# Altium footprint library PcbLib1.PcbLib: 22 footprints (part 1 of 2)
Each footprint in its own frame and in the unit in brackets; x right, y up, seen from the top. Pads: shape width x height; smd on the part's side, far side on the other; paste and mask are expansions set on the pad; w line width, h text height; cw(c..) or ccw(c..) is an arc to the next point about the centre after c.
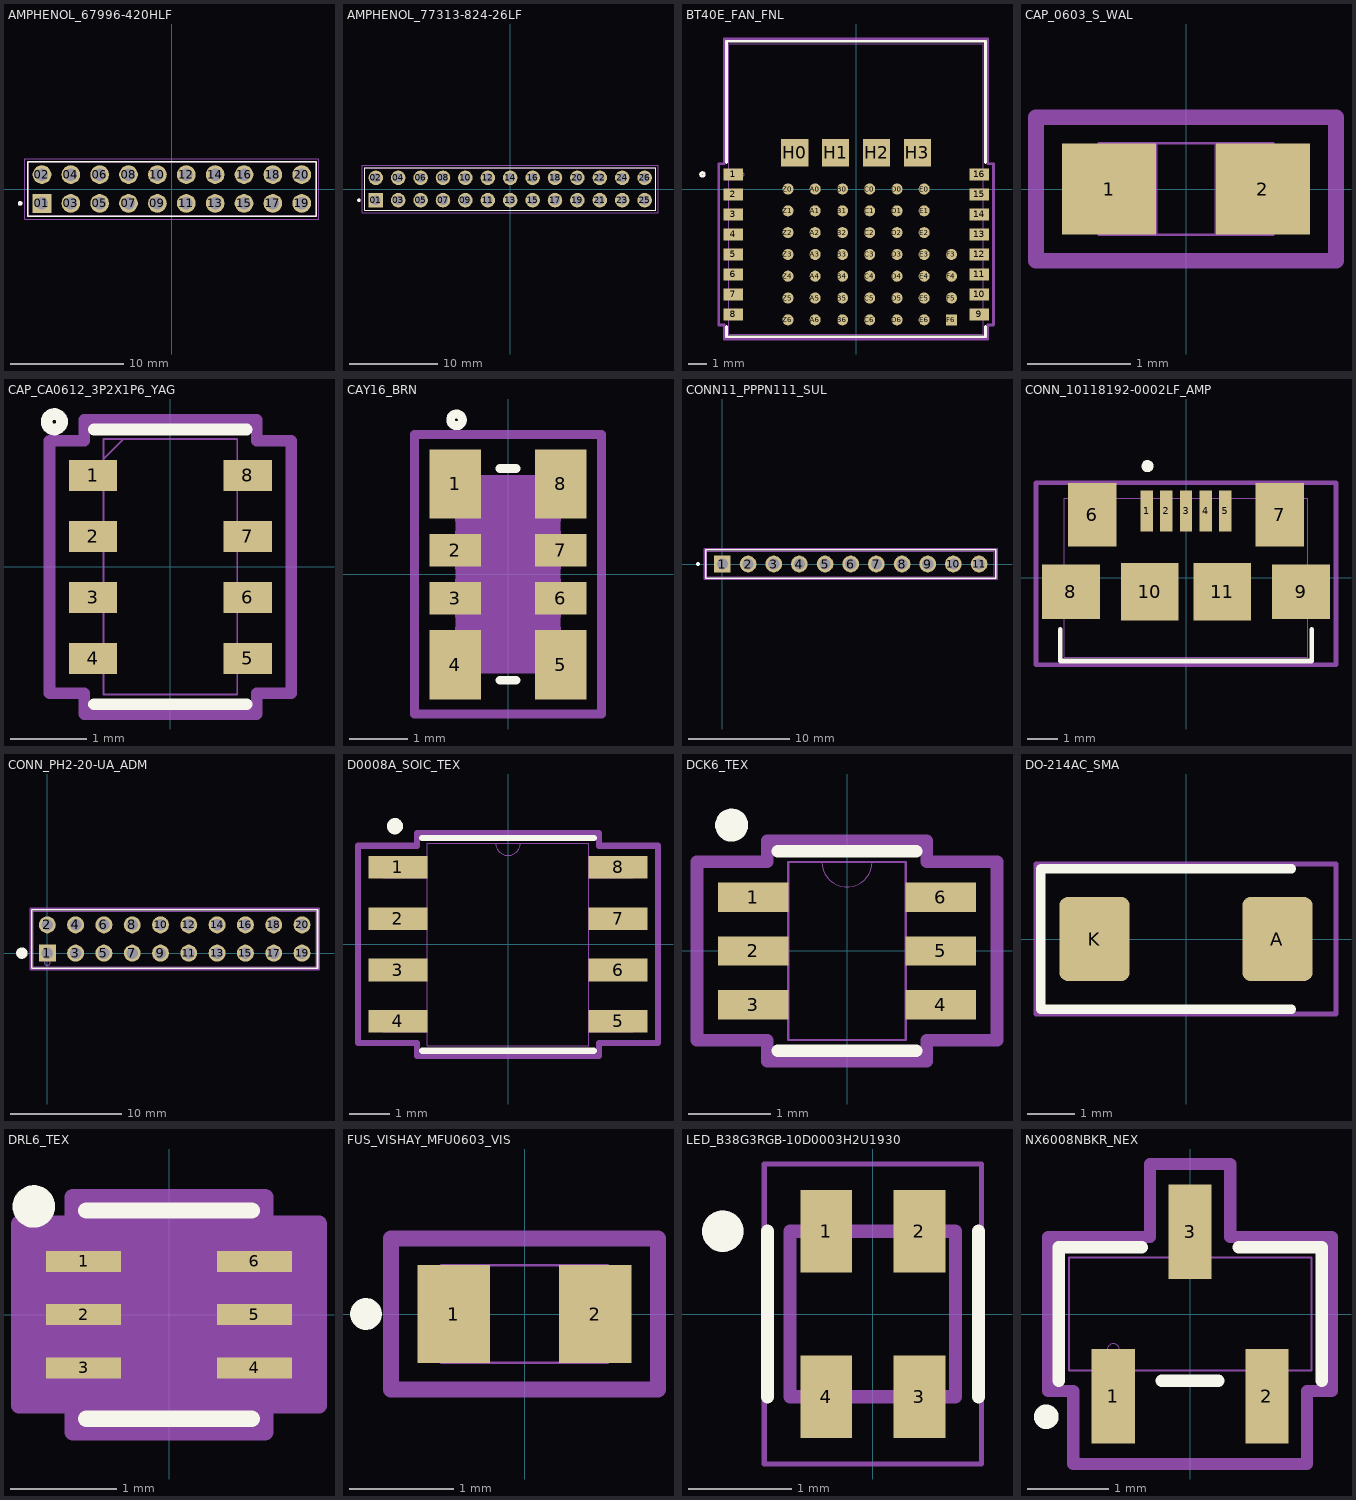
[diagram p0: the footprints below, top view; thin cyan lines are the x and y axes]

## AMPHENOL_67996-420HLF [mm]
pads (20):
  rect 1.65x1.65 hole 1.1: 01(-11.43,-1.27)
  round 1.65 hole 1.1: 02(-11.43,1.27) 03(-8.89,-1.27) 04(-8.89,1.27) 05(-6.35,-1.27) 06(-6.35,1.27) 07(-3.81,-1.27) 08(-3.81,1.27) 09(-1.27,-1.27) 10(-1.27,1.27) 11(1.27,-1.27) 12(1.27,1.27) 13(3.81,-1.27) 14(3.81,1.27) 15(6.35,-1.27) 16(6.35,1.27) 17(8.89,-1.27) 18(8.89,1.27) 19(11.43,-1.27) 20(11.43,1.27)
Top Overlay:
  circle w0.2: c-13.35,-1.27 r0.1
  lines w0.127: -12.7,-2.415 -12.7,2.415 12.7,2.415 12.7,-2.415 -12.7,-2.415
Mechanical 13:
  circle w0.2: c-13.35,-1.27 r0.1
  lines w0.127: -12.7,-2.415 -12.7,2.415 ; -12.7,-2.415 12.7,-2.415 ; -12.7,-2.415 -12.7,2.415 ; -12.7,2.415 12.7,2.415 ; -12.7,2.415 12.7,2.415 ; 12.7,-2.415 12.7,2.415 ; 12.7,-2.415 12.7,2.415
Mechanical 15:
  lines w0.05: -12.95,-2.665 -12.95,2.665 12.95,2.665 12.95,-2.665 -12.95,-2.665
3D body "step_temp.STEP": height 8.39, standoff -2.41, extent -12.7,-2.415 12.7,2.415

## AMPHENOL_77313-824-26LF [mm]
pads (26):
  rect 1.65x1.65 hole 1.1: 01(-15.24,-1.27)
  round 1.65 hole 1.1: 02(-15.24,1.27) 03(-12.7,-1.27) 04(-12.7,1.27) 05(-10.16,-1.27) 06(-10.16,1.27) 07(-7.62,-1.27) 08(-7.62,1.27) 09(-5.08,-1.27) 10(-5.08,1.27) 11(-2.54,-1.27) 12(-2.54,1.27) 13(0,-1.27) 14(0,1.27) 15(2.54,-1.27) 16(2.54,1.27) 17(5.08,-1.27) 18(5.08,1.27) 19(7.62,-1.27) 20(7.62,1.27) 21(10.16,-1.27) 22(10.16,1.27) 23(12.7,-1.27) 24(12.7,1.27) 25(15.24,-1.27) 26(15.24,1.27)
Top Overlay:
  circle w0.2: c-17.16,-1.27 r0.1
  lines w0.127: -16.51,-2.415 -16.51,2.415 16.51,2.415 16.51,-2.415 -16.51,-2.415
Mechanical 13:
  circle w0.2: c-17.16,-1.27 r0.1
  lines w0.127: -16.51,-2.415 -16.51,2.415 ; -16.51,-2.415 16.51,-2.415 ; -16.51,-2.415 -16.51,2.415 ; -16.51,2.415 16.51,2.415 ; -16.51,2.415 16.51,2.415 ; 16.51,-2.415 16.51,2.415 ; 16.51,-2.415 16.51,2.415
Mechanical 15:
  lines w0.05: -16.76,-2.665 -16.76,2.665 16.76,2.665 16.76,-2.665 -16.76,-2.665
3D body "77313-824-26LF--3DModel-STEP-554624.STEP": height 9.3, standoff -2.9, extent -16.51,-2.415 16.51,2.415

## BT40E_FAN_FNL [mil]
pads (66):
  rect 42x26 smd paste+0 mask+0: 1(-266.5,31.5) 2(-266.5,-11.81) 3(-266.5,-55.12) 4(-266.5,-98.43) 5(-266.5,-141.73) 6(-266.5,-185.04) 7(-266.5,-228.35) 8(-266.5,-271.65) 9(266.5,-271.65) 10(266.5,-228.35) 11(266.5,-185.04) 12(266.5,-141.73) 13(266.5,-98.43) 14(266.5,-55.12) 15(266.5,-11.81) 16(266.5,31.5)
  round 24 smd paste-99999 mask+0: A0(-88.58,0) A1(-88.58,-47.24) A2(-88.58,-94.49) A3(-88.58,-141.73) A4(-88.58,-188.98) A5(-88.58,-236.22) A6(-88.58,-283.46) B0(-29.53,0) B1(-29.53,-47.24) B2(-29.53,-94.49) B3(-29.53,-141.73) B4(-29.53,-188.98) B5(-29.53,-236.22) B6(-29.53,-283.46) C0(29.53,0) C1(29.53,-47.24) C2(29.53,-94.49) C3(29.53,-141.73) C4(29.53,-188.98) C5(29.53,-236.22) C6(29.53,-283.46) D0(88.58,0) D1(88.58,-47.24) D2(88.58,-94.49) D3(88.58,-141.73) D4(88.58,-188.98) D5(88.58,-236.22) D6(88.58,-283.46) E0(147.64,0) E1(147.64,-47.24) E2(147.64,-94.49) E3(147.64,-141.73) E4(147.64,-188.98) E5(147.64,-236.22) E6(147.64,-283.46) F3(206.69,-141.73) F4(206.69,-188.98) F5(206.69,-236.22) Z0(-147.64,0) Z1(-147.64,-47.24) Z2(-147.64,-94.49) Z3(-147.64,-141.73) Z4(-147.64,-188.98) Z5(-147.64,-236.22) Z6(-147.64,-283.46)
  rect 24x24 smd paste-99999 mask+0: F6(206.69,-283.46)
  rect 59x59 smd paste+0 mask+0: H0(-132.87,78.74) H1(-44.29,78.74) H2(44.29,78.74) H3(132.87,78.74)
Top Overlay:
  circle w6: c-332.81,31.5 r4
  lines w6: -280.5,-297.75 -280.5,-320 280.5,-320 280.5,-297.75 ; -280.5,57.6 -280.5,320 280.5,320 280.5,57.6
Mechanical 13:
  circle w0: c-245.5,31.5 r3
  lines w1: -275.5,-315 275.5,-315 275.5,315 -275.5,315 -275.5,-315
Mechanical 15:
  lines w6: -297.5,-294.65 -285.5,-294.65 -285.5,-325 285.5,-325 285.5,-294.65 297.5,-294.65 297.5,54.5 285.5,54.5 285.5,325 -285.5,325 -285.5,54.5 -297.5,54.5 -297.5,-294.65
3D body: height 78.74, standoff 0, extent -280.5,-320 280.5,320

## CAP_0603_S_WAL [mil]
pads (2):
  rect 36x35 smd paste+0 mask+0: 1(-29.5,0) 2(29.5,0)
Mechanical 13:
  circle w0: c-23.5,0 r3
  lines w1: -33.5,-17.5 -33.5,17.5 ; -33.5,-17.5 -11.5,-17.5 -11.5,17.5 -33.5,17.5 ; -33.5,-17.5 33.5,-17.5 ; -33.5,-17.5 -33.5,17.5 ; -33.5,17.5 33.5,17.5 ; 33.5,-17.5 11.5,-17.5 11.5,17.5 33.5,17.5 ; 33.5,-17.5 33.5,17.5 ; 33.5,-17.5 33.5,17.5
Mechanical 15:
  lines w6: -57.5,-27.5 -57.5,27.5 57.5,27.5 57.5,-27.5 -57.5,-27.5
3D body "CAP_0603_S_WAL.step": height 34.02, standoff 0, extent -33.5,-17.48 33.5,17.48

## CAP_CA0612_3P2X1P6_YAG [mil]
pads (8):
  rect 25x16 smd paste+0 mask+0: 1(-40,47.24) 2(-40,15.75) 3(-40,-15.75) 4(-40,-47.24) 5(40,-47.24) 6(40,-15.75) 7(40,15.75) 8(40,47.24)
Top Overlay:
  circle w6: c-60,75 r4
  lines w6: -39.5,-71 39.5,-71 ; -39.5,71 39.5,71
Mechanical 13:
  lines w0: -34.5,-52.24 ccw(c-34.5,-47.24) -34.5,-42.24 ; -34.5,-20.75 ccw(c-34.5,-15.75) -34.5,-10.75 ; -34.5,10.75 ccw(c-34.5,15.75) -34.5,20.75 ; -34.5,42.24 ccw(c-34.5,47.24) -34.5,52.24 ; 34.5,-52.24 cw(c34.5,-47.24) 34.5,-42.24 ; 34.5,-20.75 cw(c34.5,-15.75) 34.5,-10.75 ; 34.5,10.75 cw(c34.5,15.75) 34.5,20.75 ; 34.5,42.24 cw(c34.5,47.24) 34.5,52.24
  lines w1: -34.5,-52.24 -34.5,-66 34.5,-66 34.5,-52.24 ; -34.5,-42.24 -34.5,-20.75 ; -34.5,-10.75 -34.5,10.75 ; -34.5,20.75 -34.5,42.24 ; -34.5,52.24 -34.5,66 34.5,66 34.5,52.24 ; -34.5,56 -24.5,66 ; 34.5,-42.24 34.5,-20.75 ; 34.5,-10.75 34.5,10.75 ; 34.5,20.75 34.5,42.24
Mechanical 15:
  lines w6: -62.5,-65.24 -62.5,65.24 -44.5,65.24 -44.5,76 44.5,76 44.5,65.24 62.5,65.24 62.5,-65.24 44.5,-65.24 44.5,-76 -44.5,-76 -44.5,-65.24 -62.5,-65.24
3D body "CA0612KRX7R9BB102.step": height 35.43, standoff 0, extent -31.5,-62.99 31.5,62.99

## CAY16_BRN [mil]
pads (8):
  rect 35x47 smd paste+0 mask+0: 1(-36,61.5) 4(-36,-61.5) 5(36,-61.5) 8(36,61.5)
  rect 35x22 smd paste+0 mask+0: 2(-36,16.33) 3(-36,-16.33) 6(36,-16.33) 7(36,16.33)
Top Overlay:
  circle w6: c-35,105 r4
  lines w6: -5.4,-72 5.4,-72 ; -5.4,72 5.4,72
Mechanical 13:
  lines w0: -35.5,-35.99 ccw(c-35.5,-32.66) -35.5,-29.33 ; -35.5,-3.33 ccw(c-35.5,0) -35.5,3.33 ; -35.5,29.33 ccw(c-35.5,32.66) -35.5,35.99 ; 35.5,-35.99 cw(c35.5,-32.66) 35.5,-29.33 ; 35.5,-3.33 cw(c35.5,0) 35.5,3.33 ; 35.5,29.33 cw(c35.5,32.66) 35.5,35.99
  lines w1: -35.5,-29.33 -35.5,-3.33 ; -35.5,3.33 -35.5,29.33 ; -35.5,36 -35.5,67 35.5,67 35.5,36 ; -35.5,57 -25.5,67 ; 35.5,-29.33 35.5,-3.33 ; 35.5,3.33 35.5,29.33 ; -35.5,-36 -35.5,-67 35.5,-67 35.5,-36 ; -35.5,-36 -35.5,-35.99 ; 35.5,-36 35.5,-35.99
  text "*" at -33,22 h50
Mechanical 15:
  region: 35.5,-67 -35.5,-67 -35.5,67 35.5,67
  lines w6: -63.5,-95 -63.5,95 63.5,95 63.5,-95 -63.5,-95
3D body "CAY16_BRN.step": height 24.02, standoff 0, extent -35.51,-67.01 35.51,67.01

## CONN11_PPPN111_SUL [mm]
pads (11):
  rect 1.65x1.65 hole 1.1 paste-2539.97: 1(0,0)
  round 1.65 hole 1.1 paste-2539.97: 2(2.54,0) 3(5.08,0) 4(7.62,0) 5(10.16,0) 6(12.7,0) 7(15.24,0) 8(17.78,0) 9(20.32,0) 10(22.86,0) 11(25.4,0)
Top Overlay:
  circle w0.2: c-2.413,0 r0.1
  lines w0.152: -1.651,-1.397 27.051,-1.397 27.051,1.397 -1.651,1.397 -1.651,-1.397
Mechanical 13:
  lines w0.025: -1.524,-1.27 26.924,-1.27 26.924,1.27 -1.524,1.27 -1.524,-1.27
Mechanical 15:
  lines w0.152: -1.778,-1.524 -1.778,1.524 27.178,1.524 27.178,-1.524 -1.778,-1.524
3D body "PPTC111LFBN-RC--3DModel-STEP-56544.STEP": height 8.51, standoff -3.2, extent -1.524,-1.27 26.924,1.27

## CONN_10118192-0002LF_AMP [mil]
pads (11):
  rect 16x53 smd paste+0 mask+0: 1(-51.18,86.77) 2(-25.59,86.77) 3(0,86.77) 4(25.59,86.77) 5(51.18,86.77)
  rect 63x83 smd paste-99999 mask+0: 6(-122.05,81.85) 7(122.05,81.85)
  rect 75x71 smd paste-99999 mask+0: 8(-149.61,-18.55) 9(149.61,-18.55)
  rect 75x75 smd paste-99999 mask+0: 10(-47.24,-18.55) 11(47.24,-18.55)
Top Overlay:
  circle w7.87: c-50,145 r3.94
  lines w6: -163.5,-67.15 -163.5,-108.5 163.5,-108.5 163.5,-67.15
Mechanical 13:
  lines w1: -158.5,-103.5 158.5,-103.5 158.5,103.5 -158.5,103.5 -158.5,-103.5
Mechanical 15:
  lines w6: -195.11,-113.5 -195.11,123.35 195.11,123.35 195.11,-113.5 -195.11,-113.5
3D body "10118192-002lfc.stp": height 121.46, standoff 12.6, extent -155.76,-95 155.76,105.79

## CONN_PH2-20-UA_ADM [mil]
pads (20):
  rect 60x60 hole 40 paste-99999 mask+0: 1(0,0)
  round 60 hole 40 paste-99999 mask+0: 2(0,100) 3(100,0) 4(100,100) 5(200,0) 6(200,100) 7(300,0) 8(300,100) 9(400,0) 10(400,100) 11(500,0) 12(500,100) 13(600,0) 14(600,100) 15(700,0) 16(700,100) 17(800,0) 18(800,100) 19(900,0) 20(900,100)
Top Overlay:
  circle w20: c-90,0 r10
  lines w6: -55,-53.5 -55,153.5 955,153.5 955,-53.5 -55,-53.5
Mechanical 13:
  circle w0: c0,-33.5 r10
  lines w1: -50,-48.5 -50,148.5 950,148.5 950,-48.5 -50,-48.5
Mechanical 15:
  lines w6: -60,-58.5 960,-58.5 960,158.5 -60,158.5 -60,-58.5
3D body "CONN_PH2-20-UA_ADM.step": height 335, standoff -200, extent -50,-50 950,150

## D0008A_SOIC_TEX [mil]
pads (8):
  rect 57.5x22 smd paste+0 mask+0: 1(-107.25,75) 2(-107.25,25) 3(-107.25,-25) 4(-107.25,-75) 5(107.25,-75) 6(107.25,-25) 7(107.25,25) 8(107.25,75)
Top Overlay:
  circle w7.87: c-110,115 r3.94
  lines w6: -83.5,-103.5 83.5,-103.5 ; -83.5,103.5 83.5,103.5
Mechanical 13:
  lines w0: -12,98.5 ccw(c0,98.5) 12,98.5
  lines w1: -122,-85 -78.5,-85 -78.5,-65 -122,-65 -122,-85 ; -122,-35 -78.5,-35 -78.5,-15 -122,-15 -122,-35 ; -122,15 -78.5,15 -78.5,35 -122,35 -122,15 ; -122,65 -78.5,65 -78.5,85 -122,85 -122,65 ; -78.5,-98.5 -78.5,98.5 78.5,98.5 78.5,-98.5 -78.5,-98.5 ; 78.5,-85 122,-85 122,-65 78.5,-65 78.5,-85 ; 78.5,-35 122,-35 122,-15 78.5,-15 78.5,-35 ; 78.5,15 122,15 122,35 78.5,35 78.5,15 ; 78.5,65 122,65 122,85 78.5,85 78.5,65
Mechanical 15:
  lines w6: -146,-96 -88.5,-96 -88.5,-108.5 88.5,-108.5 88.5,-96 146,-96 146,96 88.5,96 88.5,108.5 -88.5,108.5 -88.5,96 -146,96 -146,-96
3D body "D0008A_SOIC_TEX.step": height 69.09, standoff 0, extent -122.01,-98.5 122.01,98.5

## DCK6_TEX [mil]
pads (6):
  rect 33.5x14 smd paste+0 mask+0: 1(-44.75,25.59) 2(-44.75,0) 3(-44.75,-25.59) 4(44.75,-25.59) 5(44.75,0) 6(44.75,25.59)
Top Overlay:
  circle w7.87: c-55,60 r3.94
  lines w6: -33,-47.5 33,-47.5 ; -33,47.5 33,47.5
Mechanical 13:
  lines w0: -12,42.5 ccw(c0,42.5) 12,42.5
  lines w1: -47.5,-31.59 -28,-31.59 -28,-19.59 -47.5,-19.59 -47.5,-31.59 ; -47.5,-6 -28,-6 -28,6 -47.5,6 -47.5,-6 ; -47.5,19.59 -28,19.59 -28,31.59 -47.5,31.59 -47.5,19.59 ; -28,-42.5 -28,42.5 28,42.5 28,-42.5 -28,-42.5 ; 28,-31.59 47.5,-31.59 47.5,-19.59 28,-19.59 28,-31.59 ; 28,-6 47.5,-6 47.5,6 28,6 28,-6 ; 28,19.59 47.5,19.59 47.5,31.59 28,31.59 28,19.59
Mechanical 15:
  lines w6: -71.5,-42.59 -38,-42.59 -38,-52.5 38,-52.5 38,-42.59 71.5,-42.59 71.5,42.59 38,42.59 38,52.5 -38,52.5 -38,42.59 -71.5,42.59 -71.5,-42.59
3D body "DCK6_TEX.step": height 43.11, standoff 0, extent -47.52,-42.52 47.52,42.52

## DO-214AC_SMA [mm]
pads (2):
  rrect25% 1.5x1.8 smd: A(1.95,0) K(-1.95,0)
Top Overlay:
  lines w0.2: 2.25,-1.5 -3.1,-1.5 -3.1,1.5 2.25,1.5
Mechanical 15:
  lines w0.1: -3.2,-1.6 -3.2,1.6 3.2,1.6 3.2,-1.6 -3.2,-1.6
3D body "p25_SMA_DO-214AC.stp": height 2.17, standoff 0, extent -2.525,-1.35 2.525,1.35

## DRL6_TEX [mm]
pads (6):
  rect 0.705x0.199 smd paste+0 mask+0: 1(-0.802,0.5) 2(-0.802,0) 3(-0.802,-0.5) 4(0.802,-0.5) 5(0.802,0) 6(0.802,0.5)
Top Overlay:
  circle w0.2: c-1.27,1.016 r0.1
  lines w0.152: -0.777,-0.977 0.777,-0.977 ; -0.777,0.977 0.777,0.977
Mechanical 13:
  lines w0.025: -0.65,-0.85 0.65,-0.85 0.65,0.85 -0.65,0.85 -0.65,-0.85
Mechanical 15:
  region: -0.904,-0.854 -1.409,-0.854 -1.409,0.854 -0.904,0.854 -0.904,1.104 0.904,1.104 0.904,0.854 1.409,0.854 1.409,-0.854 0.904,-0.854 0.904,-1.104 -0.904,-1.104
  lines w0.152: -1.409,-0.854 -1.409,0.854 -0.904,0.854 -0.904,1.104 0.904,1.104 0.904,0.854 1.409,0.854 1.409,-0.854 0.904,-0.854 0.904,-1.104 -0.904,-1.104 -0.904,-0.854 -1.409,-0.854
3D body "DRL6_TEX.step": height 0.6, standoff 0, extent -0.85,-0.85 0.85,0.85

## FUS_VISHAY_MFU0603_VIS [mil]
pads (2):
  rect 27.5x37 smd paste+0 mask+0: 1(-26.75,0) 2(26.75,0)
Top Overlay:
  circle w6: c-60,0 r3
Mechanical 13:
  circle w0: c-28.5,0 r3
  lines w1: -31.5,-18.5 -31.5,18.5 31.5,18.5 31.5,-18.5 -31.5,-18.5
Mechanical 15:
  lines w6: -50.5,-28.5 -41.5,-28.5 41.5,-28.5 50.5,-28.5 50.5,28.5 41.5,28.5 -41.5,28.5 -50.5,28.5 -50.5,-28.5
3D body "FUS_VISHAY_MFU0603_VIS.step": height 22.09, standoff -0.12, extent -31.5,-18.58 31.5,18.58

## LED_B38G3RGB-10D0003H2U1930 [mm]
pads (4):
  rect 0.5x0.8 smd: 1(-0.45,0.8) 2(0.45,0.8) 3(0.45,-0.8) 4(-0.45,-0.8)
Top Overlay:
  circle w0.2: c-1.45,0.8 r0.1
  lines w0.127: -1.02,-0.8 -1.02,0.8 ; 1.02,-0.8 1.02,0.8
Mechanical 13:
  circle w0.2: c-1.45,0.8 r0.1
  lines w0.127: -0.8,-0.8 -0.8,0.8 0.8,0.8 0.8,-0.8 -0.8,-0.8
Mechanical 15:
  lines w0.05: -1.05,-1.45 -1.05,1.45 1.05,1.45 1.05,-1.45 -1.05,-1.45
3D body "step_temp.STEP": height 0.4, standoff 0, extent -0.8,-0.8 0.8,0.8

## NX6008NBKR_NEX [mil]
pads (3):
  rect 21x46 smd paste+0 mask+0: 1(-37.4,-40) 2(37.4,-40) 3(0,40)
Top Overlay:
  circle w6: c-70,-50 r3
  lines w6: -64,-32.5 -64,32.5 -23.6,32.5 ; -13.8,-32.5 13.8,-32.5 ; 23.6,32.5 64,32.5 64,-32.5
Mechanical 13:
  circle w0: c-37.4,-17.5 r3
  lines w1: -59,-27.5 -59,27.5 59,27.5 59,-27.5 -59,-27.5 ; -46.9,-49 -27.9,-49 -27.9,-27.5 -46.9,-27.5 -46.9,-49 ; -9.5,27.5 -9.5,49 9.5,49 9.5,27.5 -9.5,27.5 ; 27.9,-49 46.9,-49 46.9,-27.5 27.9,-27.5 27.9,-49
Mechanical 15:
  lines w6: -69,-37.5 -56.9,-37.5 -56.9,-73 56.9,-73 56.9,-37.5 69,-37.5 69,37.5 19.5,37.5 19.5,73 -19.5,73 -19.5,37.5 -69,37.5 -69,-37.5
3D body "NX6008NBKR_NEX.step": height 43.11, standoff 0, extent -59.02,-49.02 59.02,49.02